# Altium schematic symbol library GENERIC_D_bridge.Schlib: 1 symbol
Pins are listed as number, name and electrical type; pins without a type are passive.

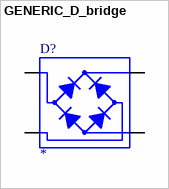
[diagram p0: symbol GENERIC_D_bridge]

## GENERIC_D_bridge
designator D?
pins: +, -, AC1, AC2